# EAGLE library part LPC4072FBD80 (library nxp_60_1_1)
32-bit ARM Cortex-M4 MCU; up to 512 kB flash, 96 kB SRAM; USB Device/Host/OTG; Ethernet; LCD; EMC; SPIFI The LPC408x/7x is an ARM Cortex-M4 based digital signal controller for embedded applications requiring a high level of integration and low power dissipation. The ARM Cortex-M4 is a next generation core that offers system enhancements such as low power consumption, enhanced debug features, and a high level of support block integration. The ARM Cortex-M4 CPU incorporates a 3-stage pipeline, uses a Harvard architecture with separate local instruction and data buses as well as a third bus for peripherals, and includes an internal prefetch unit that supports speculative branching. The ARM Cortex-M4 supports single-cycle digital signal processing and SIMD instructions. A hardware floating-point processor is integrated in the core for several versions of the part. The LPC408x/7x adds a specialized flash memory accelerator to accomplish optimal performance when executing code from flash. The LPC408x/7x is targeted to operate at up to 120 MHz CPU frequency. The peripheral complement of the LPC408x/7x includes up to 512 kB of flash program memory, up to 96 kB of SRAM data memory, up to 4032 byte of EEPROM data memory, External Memory controller (EMC), LCD, Ethernet, USB Device/Host/OTG, an SPI Flash Interface (SPIFI), a General Purpose DMA controller, five UARTs, three SSP controllers, three I 2 C-bus interfaces, a Quadrature Encoder Interface, four general purpose timers, two general purpose PWMs with six outputs each and one motor control PWM, an ultra-low power RTC with separate battery supply and event recorder, a windowed watchdog timer, a CRC calculation engine and up to 165 general purpose I/O pins. The analog peripherals include one eight-channel 12-bit ADC, two analog comparators, and a DAC. The pinout of LPC408x/7x is intended to allow pin function compatibility with the LPC24xx/23xx as well as the LPC178x/7x families. AAL Eindhoven MK
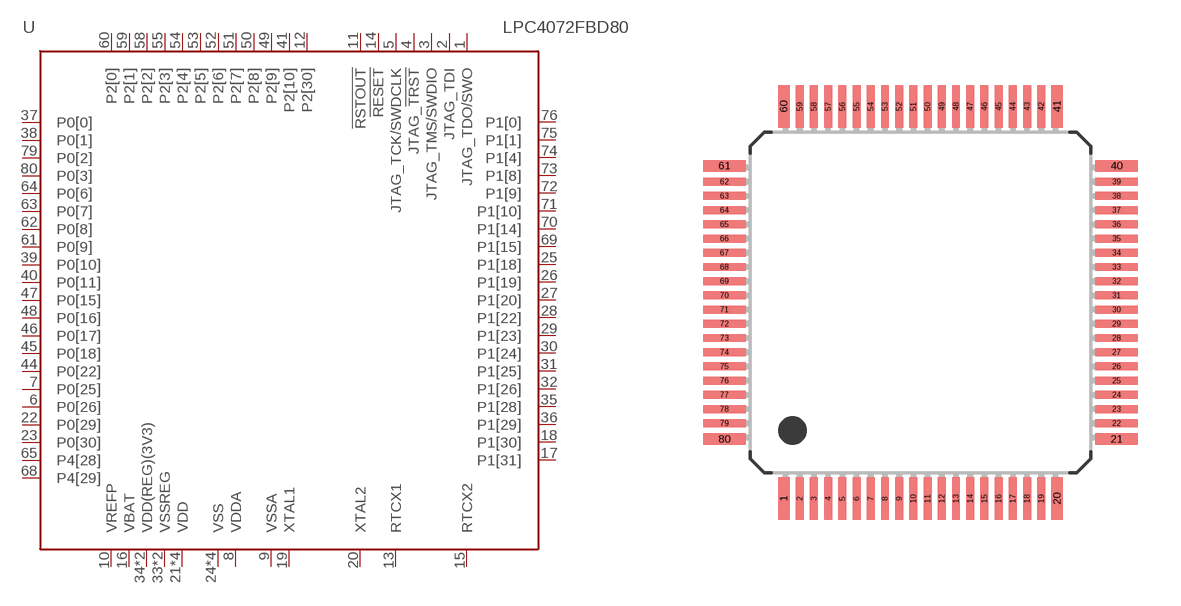
[diagram p144: symbol with the pads of SOT315-1; footprint SOT315-1]

Designator prefix U

## LPC4072FBD80  [SOT315-1]
1  JTAG_TDO/SWO  out
2  JTAG_TDI  in
3  JTAG_TMS/SWDIO  in
4  JTAG_!TRST  in
5  JTAG_TCK/SWDCLK  in
6  P0[26]
7  P0[25]
8  VDDA  pwr
9  VSSA  pwr
10  VREFP  pwr
11  !RSTOUT!  out
12  P2[30]
13  RTCX1  in
14  !RESET!  in
15  RTCX2  out
16  VBAT  pwr
17  P1[31]
18  P1[30]
19  XTAL1  in
20  XTAL2  out
21  VDD  pwr
22  P0[29]
23  P0[30]
24  VSS  pwr
25  P1[18]
26  P1[19]
27  P1[20]
28  P1[22]
29  P1[23]
30  P1[24]
31  P1[25]
32  P1[26]
33  VSSREG  pwr
34  VDD(REG)(3V3)  pwr
35  P1[28]
36  P1[29]
37  P0[0]
38  P0[1]
39  P0[10]
40  P0[11]
41  P2[10]
42  VDD  pwr
43  VSS  pwr
44  P0[22]
45  P0[18]
46  P0[17]
47  P0[15]
48  P0[16]
49  P2[9]
50  P2[8]
51  P2[7]
52  P2[6]
53  P2[5]
54  P2[4]
55  P2[3]
56  VDD  pwr
57  VSS  pwr
58  P2[2]
59  P2[1]
60  P2[0]
61  P0[9]
62  P0[8]
63  P0[7]
64  P0[6]
65  P4[28]
66  VSSREG  pwr
67  VDD(REG)(3V3)  pwr
68  P4[29]
69  P1[15]
70  P1[14]
71  P1[10]
72  P1[9]
73  P1[8]
74  P1[4]
75  P1[1]
76  P1[0]
77  VDD  pwr
78  VSS  pwr
79  P0[2]
80  P0[3]

## Footprint SOT315-1 (pad centres in mm)
SOT315-1 LQFP80: plastic low profile quad flat package; 80 leads; body 12 x 12 x 1.4 mm JEDEC: MS-026 IEC: 136E15
smd 0.4 x 1.5: 1 -4.81,-6.9; 20 4.81,-6.9; 41 4.81,6.9; 60 -4.81,6.9
smd 0.28 x 1.5: 2 -4.25,-6.9; 3 -3.75,-6.9; 4 -3.25,-6.9; 5 -2.75,-6.9; 6 -2.25,-6.9; 7 -1.75,-6.9; 8 -1.25,-6.9; 9 -0.75,-6.9; 10 -0.25,-6.9; 11 0.25,-6.9; 12 0.75,-6.9; 13 1.25,-6.9; 14 1.75,-6.9; 15 2.25,-6.9; 16 2.75,-6.9; 17 3.25,-6.9; 18 3.75,-6.9; 19 4.25,-6.9; 42 4.25,6.9; 43 3.75,6.9; 44 3.25,6.9; 45 2.75,6.9; 46 2.25,6.9; 47 1.75,6.9; 48 1.25,6.9; 49 0.75,6.9; 50 0.25,6.9; 51 -0.25,6.9; 52 -0.75,6.9; 53 -1.25,6.9; 54 -1.75,6.9; 55 -2.25,6.9; 56 -2.75,6.9; 57 -3.25,6.9; 58 -3.75,6.9; 59 -4.25,6.9
smd 1.5 x 0.4: 21 6.9,-4.81; 40 6.9,4.81; 61 -6.9,4.81; 80 -6.9,-4.81
smd 1.5 x 0.28: 22 6.9,-4.25; 23 6.9,-3.75; 24 6.9,-3.25; 25 6.9,-2.75; 26 6.9,-2.25; 27 6.9,-1.75; 28 6.9,-1.25; 29 6.9,-0.75; 30 6.9,-0.25; 31 6.9,0.25; 32 6.9,0.75; 33 6.9,1.25; 34 6.9,1.75; 35 6.9,2.25; 36 6.9,2.75; 37 6.9,3.25; 38 6.9,3.75; 39 6.9,4.25; 62 -6.9,4.25; 63 -6.9,3.75; 64 -6.9,3.25; 65 -6.9,2.75; 66 -6.9,2.25; 67 -6.9,1.75; 68 -6.9,1.25; 69 -6.9,0.75; 70 -6.9,0.25; 71 -6.9,-0.25; 72 -6.9,-0.75; 73 -6.9,-1.25; 74 -6.9,-1.75; 75 -6.9,-2.25; 76 -6.9,-2.75; 77 -6.9,-3.25; 78 -6.9,-3.75; 79 -6.9,-4.25